# Altium schematic symbol library hphonglib.SchLib: 598 symbols (part 8 of 8)
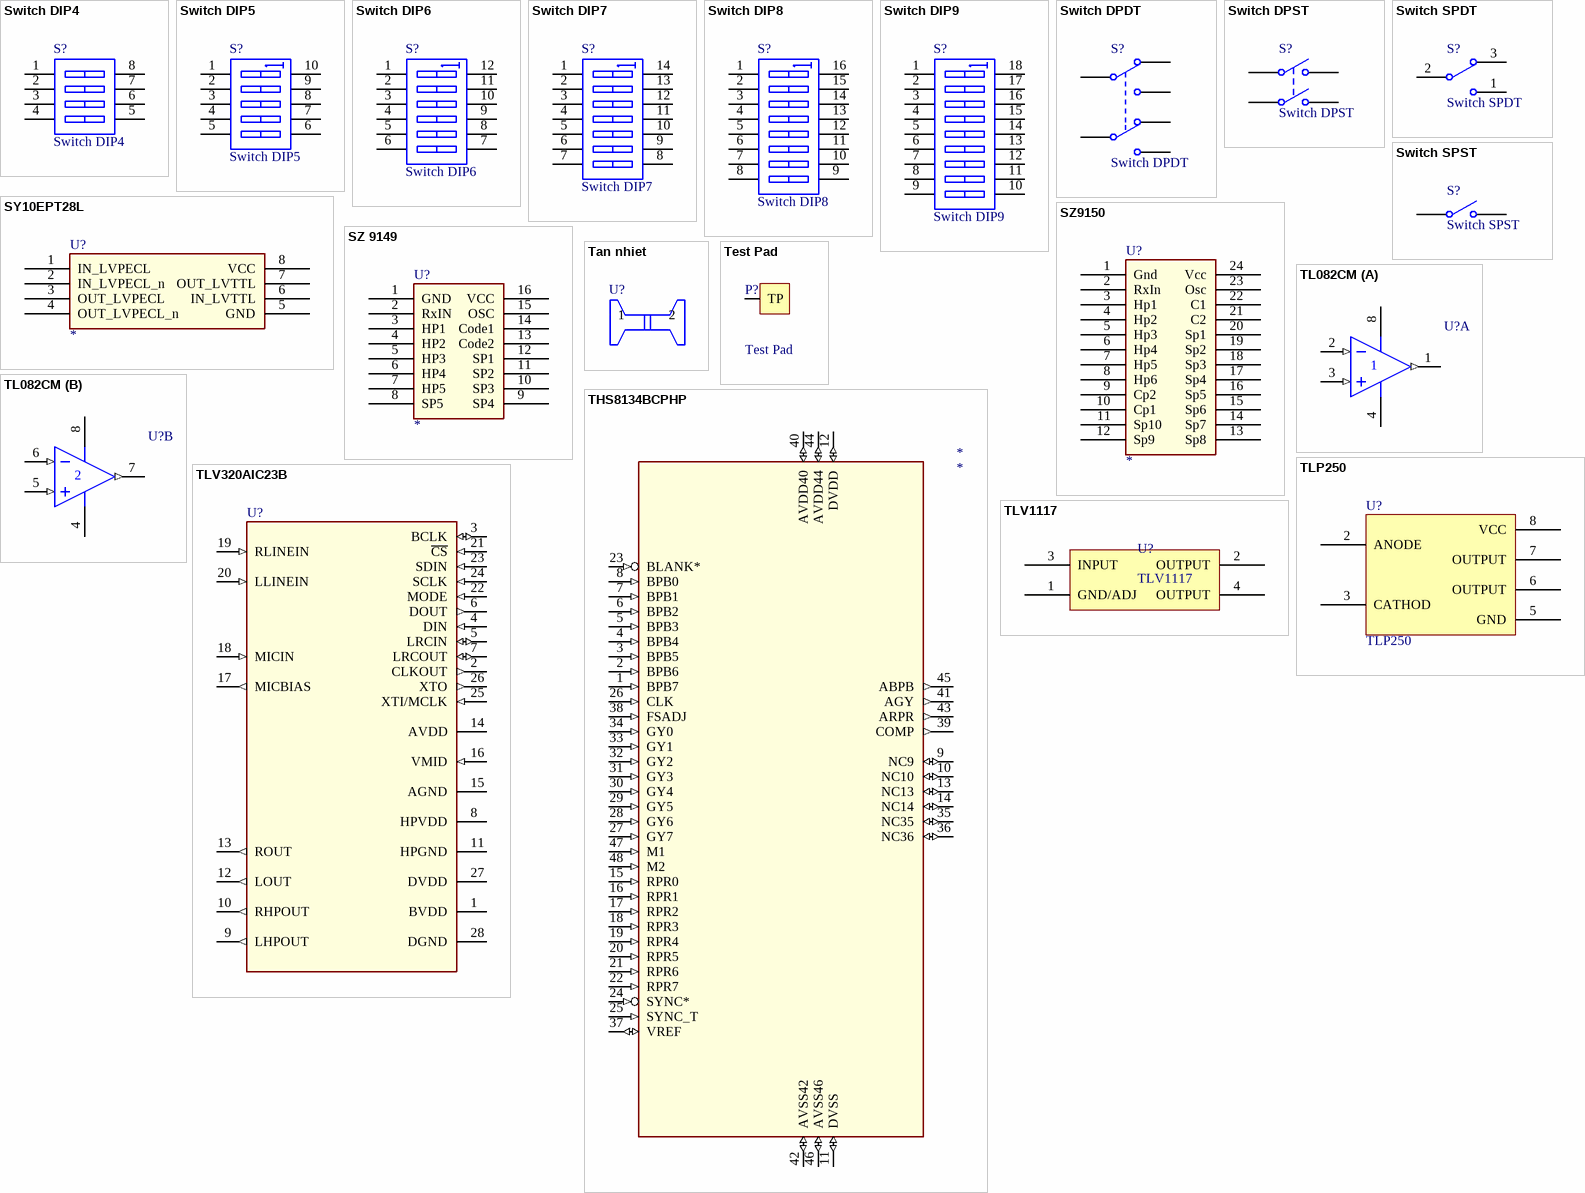
[diagram p38: symbols Switch DIP4 to TLV1117]

## Switch SPDT
designator S?
Single-Pole, Double-Throw Switch; Published: 24-Mar-1999; LatestRevisionDate: 17-Dec-2003; LatestRevisionNote: Schematic revised, PCB Footprint replaced.; DatasheetDocument: 05-Dec-2000; PackageReference: TL36WW15050; Publisher: Altium Limited; ComponentLink1Description: Manufacturer Link; ComponentLink1URL: http://www.apem.com
footprint SPDT (Single-Pole, Double-Throw Switch)
footprint SPDT-Small (Single-Pole, Double-Throw Switch, Small Type)
pins: 1, 2, 3

## Switch SPST
designator S?
Single-Pole, Single-Throw Switch; Published: 24-Mar-1999; LatestRevisionDate: 17-Jul-2002; LatestRevisionNote: Re-released for DXP Platform.; PackageReference: SPST-2; Publisher: Altium Limited
footprint SPST (Single-Pole, Single-Throw Switch; 2 Leads)
footprint SPST-Latch (Single-Pole, Single-Throw Switch; 2 Leads)
pins: 1 COMMON, 2 NO

## SY10EPT28L
designator U?
ComponentLink1Description: Digikey Part Link; ComponentLink2Description: Open Datasheet; ComponentLink2URL: H:\LIBRARY\LIBRARY.Datasheet\
footprint SOIC
pins: 1 IN_LVPECL, 2 IN_LVPECL_n, 3 OUT_LVPECL, 4 OUT_LVPECL_n, 5 GND, 6 IN_LVTTL, 7 OUT_LVTTL, 8 VCC

## SZ9150
designator U?
Vendor: Digikey; Published: 13-April-2009; Publisher: Hoang Nguyen; ComponentLink1Description: Digikey Part Link; ComponentLink2Description: Open Datasheet; ComponentLink2URL: H:\LIBRARY\LIBRARY.Datasheet\
pins: 1 Gnd (power), 2 RxIn, 3 Hp1, 4 Hp2, 5 Hp3, 6 Hp4, 7 Hp5, 8 Hp6, 9 Cp2, 10 Cp1, 11 Sp10, 12 Sp9, 13 Sp8, 14 Sp7, 15 Sp6, 16 Sp5, 17 Sp4, 18 Sp3, 19 Sp2, 20 Sp1, 21 C2, 22 C1, 23 Osc, 24 Vcc (power)

## SZ 9149
designator U?
Vendor: Digikey; Published: 13-April-2009; Publisher: Hoang Nguyen; ComponentLink1Description: Digikey Part Link; ComponentLink2Description: Open Datasheet; ComponentLink2URL: H:\LIBRARY\LIBRARY.Datasheet\
pins: 1 GND (power), 2 RxIN, 3 HP1, 4 HP2, 5 HP3, 6 HP4, 7 HP5, 8 SP5, 9 SP4, 10 SP3, 11 SP2, 12 SP1, 13 Code2, 14 Code1, 15 OSC, 16 VCC (power)

## Tan nhiet
designator U?  (value not drawn)
Vendor: Digikey; Published: 13-April-2009; Publisher: Hoang Nguyen; ComponentLink1Description: Digikey Part Link; ComponentLink2Description: Open Datasheet; ComponentLink2URL: H:\LIBRARY\LIBRARY.Datasheet\
footprint Tan Nhiet
footprint Tan Nhiet_N
pins: 1, 2

## Test Pad
designator P?
Test Pad, 1-Pin; LatestRevisionDate: 17-Jul-2002; LatestRevisionNote: Re-released for DXP Platform.; Publisher: Altium Limited
footprint TP (Test Pad, 1-Pin)
pins: 1 TP

## THS8134BCPHP
designator *
Triple DAC Video; Vendor: Digikey; Published: 13-April-2009; Publisher: Hoang Nguyen; ComponentLink1Description: Digikey Part Link; ComponentLink2Description: Open Datasheet; ComponentLink2URL: H:\LIBRARY\LIBRARY.Datasheet\
pins: 1 BPB7 (in), 2 BPB6 (in), 3 BPB5 (in), 4 BPB4 (in), 5 BPB3 (in), 6 BPB2 (in), 7 BPB1 (in), 8 BPB0 (in), 9 NC9 (io), 10 NC10 (io), 11 DVSS (io), 12 DVDD (io), 13 NC13 (io), 14 NC14 (io), 15 RPR0 (in), 16 RPR1 (in), 17 RPR2 (in), 18 RPR3 (in), 19 RPR4 (in), 20 RPR5 (in), 21 RPR6 (in), 22 RPR7 (in), 23 BLANK* (in), 24 SYNC* (in), 25 SYNC_T (in), 26 CLK (in), 27 GY7 (in), 28 GY6 (in), 29 GY5 (in), 30 GY4 (in), 31 GY3 (in), 32 GY2 (in), 33 GY1 (in), 34 GY0 (in), 35 NC35 (io), 36 NC36 (io), 37 VREF (io), 38 FSADJ (in), 39 COMP (out), 40 AVDD40 (io), 41 AGY (out), 42 AVSS42 (io), 43 ARPR (out), 44 AVDD44 (io), 45 ABPB (out), 46 AVSS46 (io), 47 M1 (in), 48 M2 (in)

## TL082CM
designator U?
Wide-Bandwidth Dual JFET Input Operational Amplifier; Published: 15-Apr-2002; LatestRevisionDate: 13-Apr-2006; LatestRevisionNote: IPC-7351 Footprint Added.; DatasheetVersion: Apr-1998; PackageVersion: Sep-1997; PackageReference: M08A; Publisher: Altium Limited; PackageDescription: 8-Pin Small Outline Integrated Circuit 1.27 mm Pitch; Code_JEDEC: MS-012-AA; Code_IPC: SOIC127P600-8; ComponentLink1Description: Manufacturer Link; ComponentLink1URL: http://www.national.com/; ComponentLink2Description: Datasheet; ComponentLink2URL: http://www.national.com/ds.cgi/TL/TL082.pdf; ComponentLink3Description: URL Link1; ComponentLink3URL: http://www.national.com/pf/TL/TL082.html
footprint DIP-8 (DIP, 8-Pin, Row Spacing 7.62 mm, Pitch 2.54 mm)
pins on every part: 4 V- (power), 8 V+ (power)
part A pins: 1 OUT (out), 2 IN- (in), 3 IN+ (in)
part B pins: 5 IN+ (in), 6 IN- (in), 7 OUT (out)

## TLP250
designator U?
IGBT/Power MOSFET Gate Driver
footprint DIP-8 (DIP, 8-Pin, Row Spacing 7.62 mm, Pitch 2.54 mm)
pins: 2 ANODE, 3 CATHOD, 5 GND, 6 OUTPUT, 7 OUTPUT, 8 VCC

## TLV320AIC23B
designator U?  (value not drawn)
utomotive Catalog Stereo Audio CODEC, 8- to 96 kHz, w/Integrated Headphone Amp; Manufacturer: Texas Instruments; Manufacturer P/N: TLV320AIC23B-Q1; Sampling Rate: 96Khz; Resolution: 24-bit; Analog Supply: 2.7 - 3.6 V; Digital Supply: 1.42 - 3.6 V; ComponentLink1Description: Digikey Part Link; ComponentLink2Description: Open Datasheet; ComponentLink2URL: H:\LIBRARY\LIBRARY.Datasheet\tlv320aic23b-q1.pdf
footprint SSOP-28.AIC23 (SSOP, Plastic; 28 Leads; Body Width 5.2 mm; Pitch 0.65 mm)
pins: 1 BVDD (power) "Buffer supply input. Voltage range is from 2.7 V to 3.6 V.", 2 CLKOUT (out) "Clock output. This is a buffered version of the XTI input and is available in 1X or 1/2X frequencies of XTI. Bit 07 in  the sample rate control register controls frequency selection", 3 BCLK (io) "I2S serial-bit clock", 4 DIN (in) "I2S format serial data input to the sigma-delta stereo DAC", 5 LRCIN (io) "I2S DAC-word clock signal.", 6 DOUT (out) "I2S format serial data output from the sigma-delta stereo ADC", 7 LRCOUT (io) "I2S ADC-word clock signal.", 8 HPVDD (power) "Analog headphone amplifier supply input. Voltage level is 3.3 V nominal.", 9 LHPOUT (out) "Left stereo mixer-channel amplified headphone output", 10 RHPOUT (out) "Right stereo mixer-channel amplified headphone output", 11 HPGND (power) "Analog headphone amplifier supply return", 12 LOUT (out) "Left stereo mixer-channel line output", 13 ROUT (out) "Right stereo mixer-channel line output", 14 AVDD (power) "Analog supply input. Voltage level is 3.3 V nominal.", 15 AGND (power) "Analog supply return", 16 VMID (in) "Midrail voltage decoupling input", 17 MICBIAS (out) "Buffered low-noise-voltage output suitable for electret-microphone-capsule biasing", 18 MICIN (in) "Buffered amplifier input suitable for use with electret-microphone capsules", 19 RLINEIN (in) "Right stereo-line input channel", 20 LLINEIN (in) "Left stereo-line input channe", 21 ~{CS} (in) "Control port input latch/address select. For SPI control mode this input acts as the data latch control. For 2-wire  control mode this input defines the seventh bit in the device address field", 22 MODE (in) "Serial-interface-mode input", 23 SDIN (in) "Control-port serial-data input", 24 SCLK (in) "Control-port serial-data clock", 25 XTI/MCLK (in) "Crystal or external-clock input", 26 XTO (out) "Crystal output", 27 DVDD (power) "Digital supply input. Voltage range is 1.4 V to 3.6 V.", 28 DGND (power) "Digital supply return"

## TLV1117
designator U?
Adjustable And Fixed Low-Dropout Voltage Regulator
footprint SOT223-4M (SOT223, 4-Leads, Body 6.5x3.5mm, Pitch 2.3mm, Lead Span 7mm, IPC Low Density)
footprint SOT223-4M-A (Connector; Header; 3 Position; Solder Pad 35mil)
pins: 1 GND/ADJ, 2 OUTPUT, 3 INPUT, 4 OUTPUT

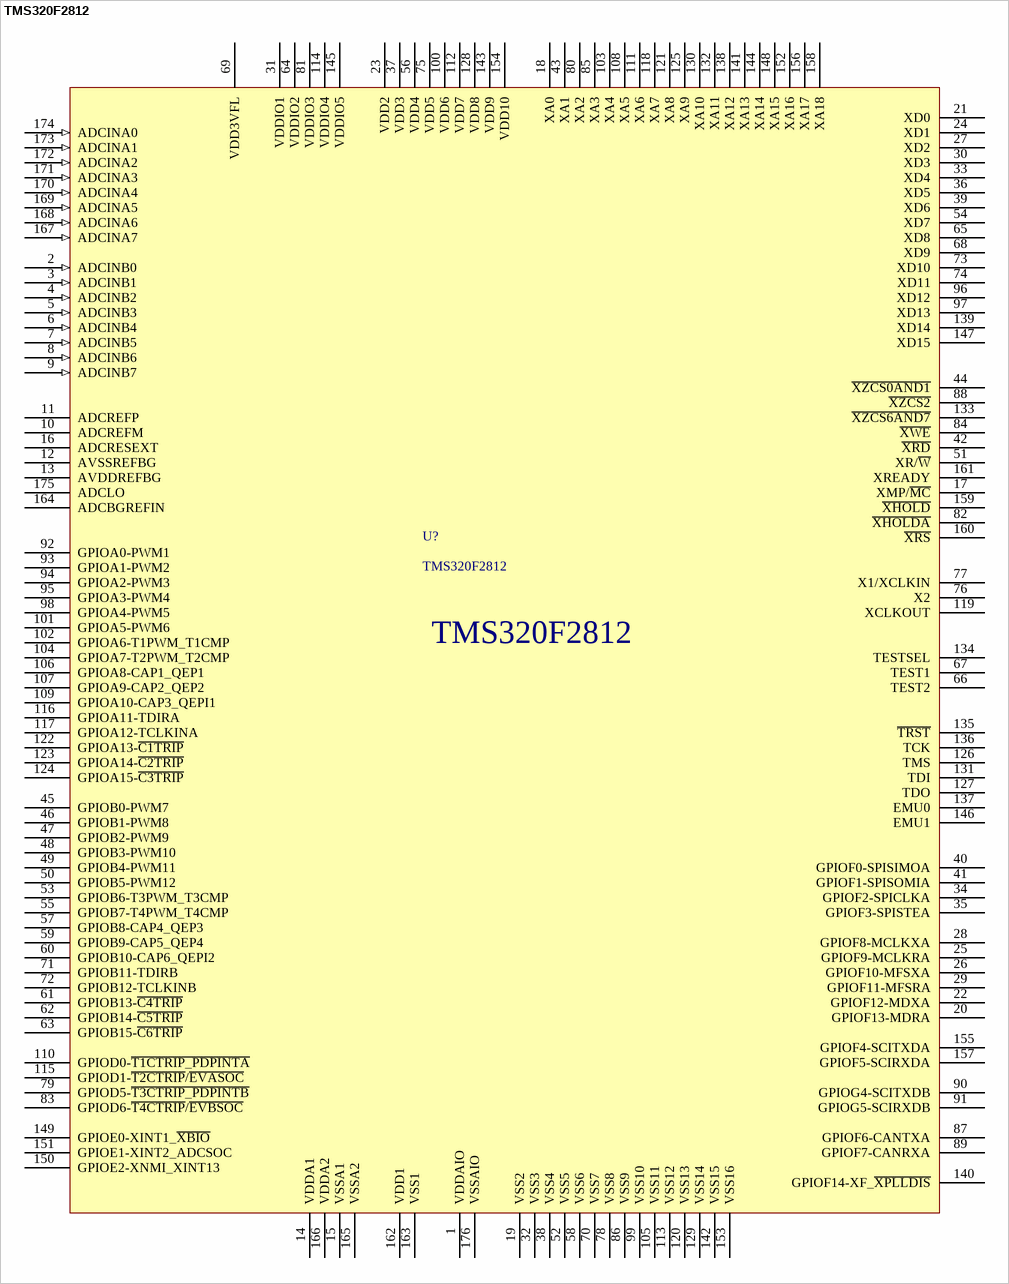
[diagram p27: symbol TMS320F2812]

## TMS320F2812
designator U?
Digital Signal Processors; Manufacture: Texas Instruments
footprint QFP-24x24-0.5-176 (176-Pin Plastic Quad Flat Pack, Body 24mmx24mm, Pitch 0.5 m)
footprint QFP-24x24-0.5-176-A (176-Pin Plastic Quad Flat Pack, Body 24mmx24mm, Pitch 0.5 m; Adaptor)
pins: 1 VDDAIO, 2 ADCINB0 (in), 3 ADCINB1 (in), 4 ADCINB2 (in), 5 ADCINB3 (in), 6 ADCINB4 (in), 7 ADCINB5 (in), 8 ADCINB6 (in), 9 ADCINB7 (in), 10 ADCREFM, 11 ADCREFP, 12 AVSSREFBG, 13 AVDDREFBG, 14 VDDA1, 15 VSSA1, 16 ADCRESEXT, 17 XMP/~{MC}, 18 XA0, 19 VSS2, 20 GPIOF13-MDRA, 21 XD0, 22 GPIOF12-MDXA, 23 VDD2, 24 XD1, 25 GPIOF9-MCLKRA, 26 GPIOF10-MFSXA, 27 XD2, 28 GPIOF8-MCLKXA, 29 GPIOF11-MFSRA, 30 XD3, 31 VDDIO1, 32 VSS3, 33 XD4, 34 GPIOF2-SPICLKA, 35 GPIOF3-SPISTEA, 36 XD5, 37 VDD3, 38 VSS4, 39 XD6, 40 GPIOF0-SPISIMOA, 41 GPIOF1-SPISOMIA, 42 ~{XRD}, 43 XA1, 44 ~{XZCS0AND1}, 45 GPIOB0-PWM7, 46 GPIOB1-PWM8, 47 GPIOB2-PWM9, 48 GPIOB3-PWM10, 49 GPIOB4-PWM11, 50 GPIOB5-PWM12, 51 XR/~{W}, 52 VSS5, 53 GPIOB6-T3PWM_T3CMP, 54 XD7, 55 GPIOB7-T4PWM_T4CMP, 56 VDD4, 57 GPIOB8-CAP4_QEP3, 58 VSS6, 59 GPIOB9-CAP5_QEP4, 60 GPIOB10-CAP6_QEPI2, 61 GPIOB13-~{C4TRIP}, 62 GPIOB14-~{C5TRIP}, 63 GPIOB15-~{C6TRIP}, 64 VDDIO2, 65 XD8, 66 TEST2, 67 TEST1, 68 XD9, 69 VDD3VFL, 70 VSS7, 71 GPIOB11-TDIRB, 72 GPIOB12-TCLKINB, 73 XD10, 74 XD11, 75 VDD5, 76 X2, 77 X1/XCLKIN, 78 VSS8, 79 GPIOD5-~{T3CTRIP_PDPINTB}, 80 XA2, 81 VDDIO3, 82 ~{XHOLDA}, 83 GPIOD6-~{T4CTRIP}/~{EVBSOC}, 84 ~{XWE}, 85 XA3, 86 VSS9, 87 GPIOF6-CANTXA, 88 ~{XZCS2}, 89 GPIOF7-CANRXA, 90 GPIOG4-SCITXDB, 91 GPIOG5-SCIRXDB, 92 GPIOA0-PWM1, 93 GPIOA1-PWM2, 94 GPIOA2-PWM3, 95 GPIOA3-PWM4, 96 XD12, 97 XD13, 98 GPIOA4-PWM5, 99 VSS10, 100 VDD6, 101 GPIOA5-PWM6, 102 GPIOA6-T1PWM_T1CMP, 103 XA4, 104 GPIOA7-T2PWM_T2CMP, 105 VSS11, 106 GPIOA8-CAP1_QEP1, 107 GPIOA9-CAP2_QEP2, 108 XA5, 109 GPIOA10-CAP3_QEPI1, 110 GPIOD0-~{T1CTRIP_PDPINTA}, 111 XA6, 112 VDD7, 113 VSS12, 114 VDDIO4, 115 GPIOD1-~{T2CTRIP}/~{EVASOC}, 116 GPIOA11-TDIRA, 117 GPIOA12-TCLKINA, 118 XA7, 119 XCLKOUT, 120 VSS13, 121 XA8, 122 GPIOA13-~{C1TRIP}, 123 GPIOA14-~{C2TRIP}, 124 GPIOA15-~{C3TRIP}, 125 XA9, 126 TMS, 127 TDO, 128 VDD8, 129 VSS14, 130 XA10, 131 TDI, 132 XA11, 133 ~{XZCS6AND7}, 134 TESTSEL, 135 ~{TRST}, 136 TCK, 137 EMU0, 138 XA12, 139 XD14, 140 GPIOF14-XF_~{XPLLDIS}, 141 XA13, 142 VSS15, 143 VDD9, 144 XA14, 145 VDDIO5, 146 EMU1, 147 XD15, 148 XA15, 149 GPIOE0-XINT1_~{XBIO}, 150 GPIOE2-XNMI_XINT13, 151 GPIOE1-XINT2_ADCSOC, 152 XA16, 153 VSS16, 154 VDD10, 155 GPIOF4-SCITXDA, 156 XA17, 157 GPIOF5-SCIRXDA, 158 XA18, 159 ~{XHOLD}, 160 ~{XRS}, 161 XREADY, 162 VDD1, 163 VSS1, 164 ADCBGREFIN, 165 VSSA2, 166 VDDA2, 167 ADCINA7 (in), 168 ADCINA6 (in), 169 ADCINA5 (in), 170 ADCINA4 (in), 171 ADCINA3 (in), 172 ADCINA2 (in), 173 ADCINA1 (in), 174 ADCINA0 (in), 175 ADCLO, 176 VSSAIO

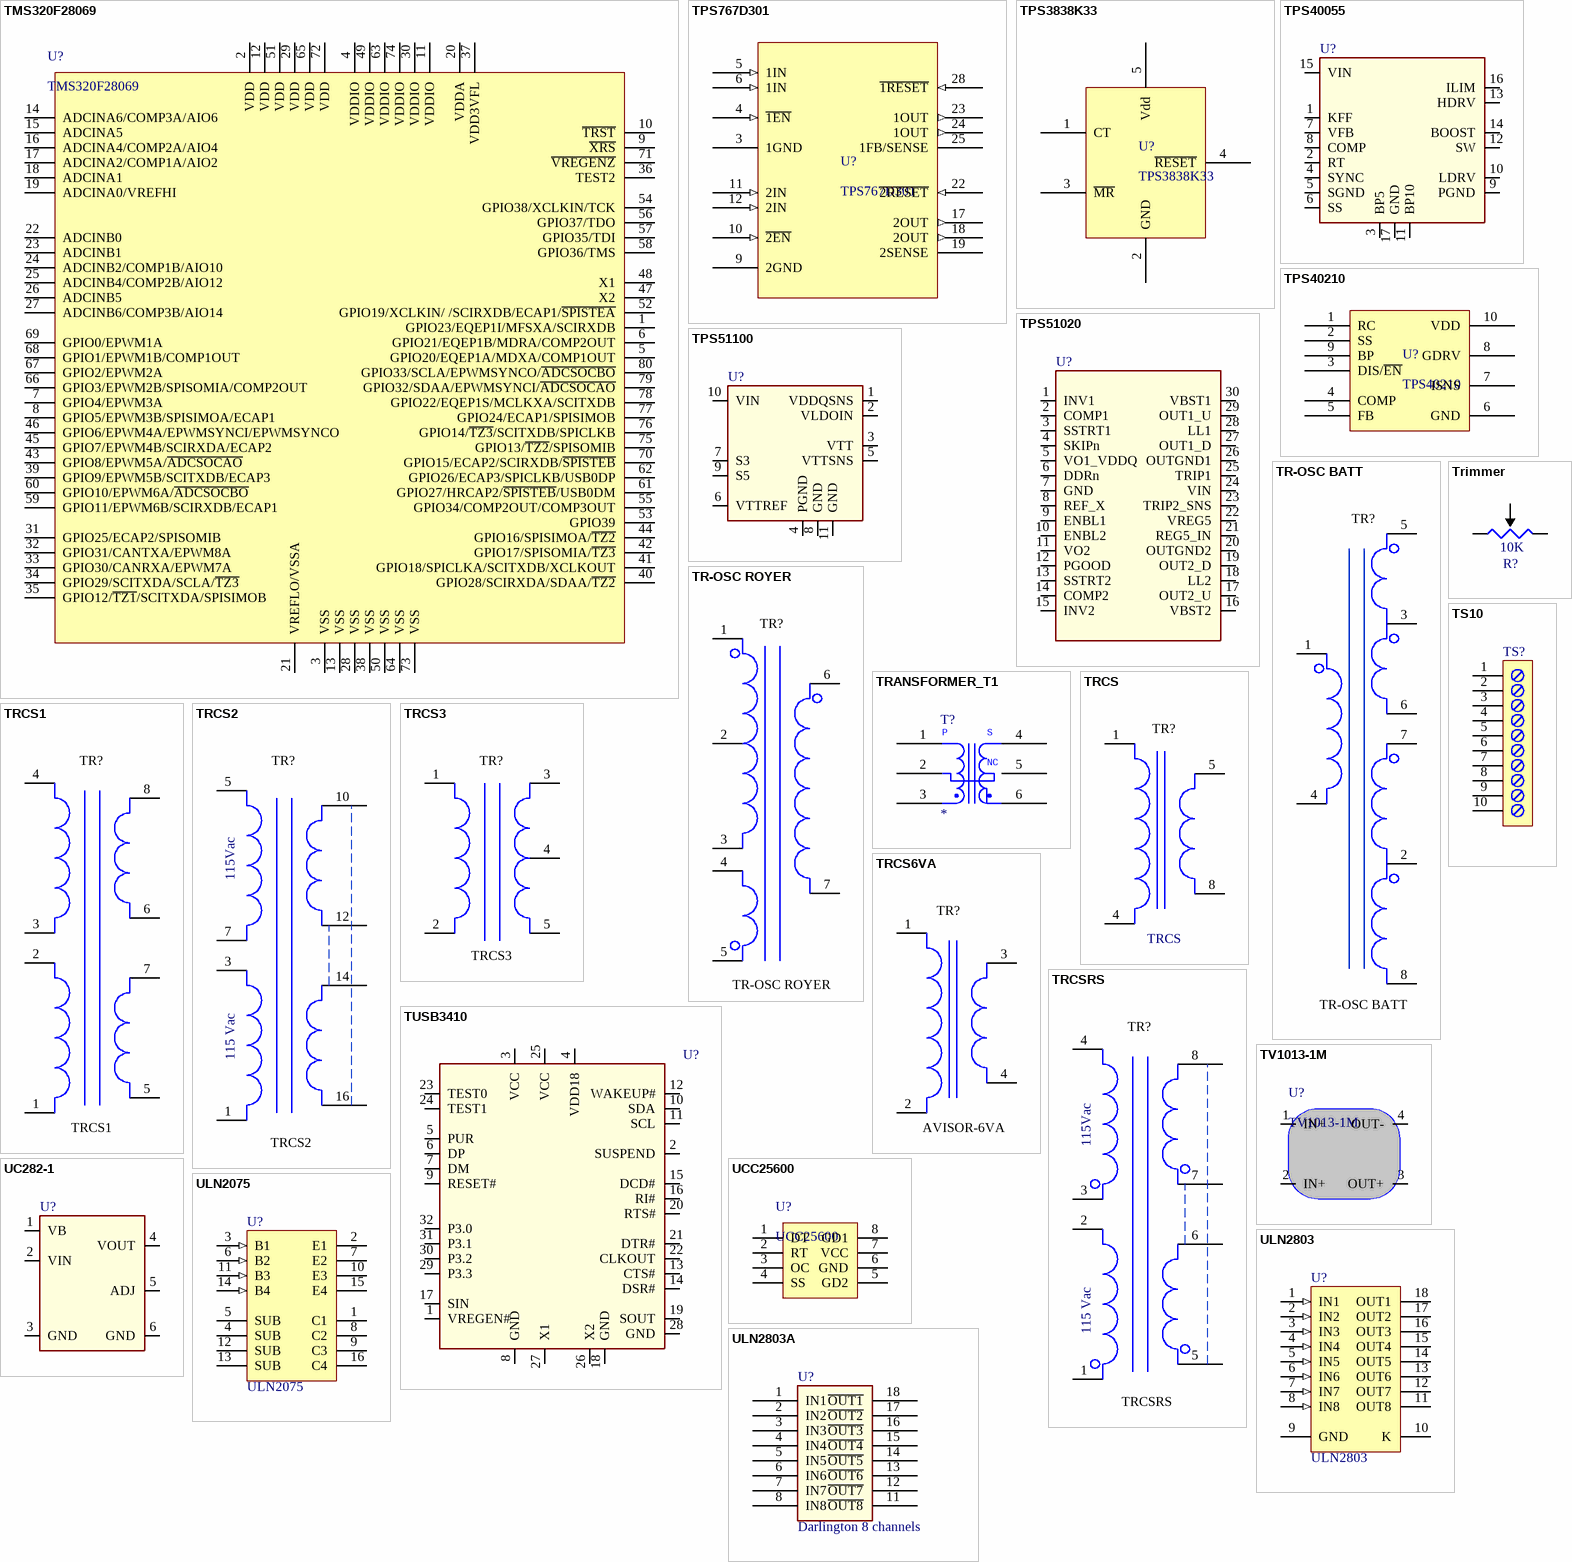
[diagram p28: symbols TMS320F28069 to ULN2803A]

## TMS320F28069
designator U?
Manufacture Company: Texas Instrument
footprint TQFP-80_L (80-Pin Thin Plastic Quad Flat Pack 0.5 mm Pitch, 1.0/0.1 mm Lead Form, IPC High Density)
pins: 1 GPIO23/EQEP1I/MFSXA/SCIRXDB, 2 VDD, 3 VSS, 4 VDDIO, 5 GPIO20/EQEP1A/MDXA/COMP1OUT, 6 GPIO21/EQEP1B/MDRA/COMP2OUT, 7 GPIO4/EPWM3A, 8 GPIO5/EPWM3B/SPISIMOA/ECAP1, 9 ~{XRS}, 10 ~{TRST}, 11 VDDIO, 12 VDD, 13 VSS, 14 ADCINA6/COMP3A/AIO6, 15 ADCINA5, 16 ADCINA4/COMP2A/AIO4, 17 ADCINA2/COMP1A/AIO2, 18 ADCINA1, 19 ADCINA0/VREFHI, 20 VDDA, 21 VREFLO/VSSA, 22 ADCINB0, 23 ADCINB1, 24 ADCINB2/COMP1B/AIO10, 25 ADCINB4/COMP2B/AIO12, 26 ADCINB5, 27 ADCINB6/COMP3B/AIO14, 28 VSS, 29 VDD, 30 VDDIO, 31 GPIO25/ECAP2/SPISOMIB, 32 GPIO31/CANTXA/EPWM8A, 33 GPIO30/CANRXA/EPWM7A, 34 GPIO29/SCITXDA/SCLA/~{TZ3}, 35 GPIO12/~{TZ1}/SCITXDA/SPISIMOB, 36 TEST2, 37 VDD3VFL, 38 VSS, 39 GPIO9/EPWM5B/SCITXDB/ECAP3, 40 GPIO28/SCIRXDA/SDAA/~{TZ2}, 41 GPIO18/SPICLKA/SCITXDB/XCLKOUT, 42 GPIO17/SPISOMIA/~{TZ3}, 43 GPIO8/EPWM5A/~{ADCSOCAO}, 44 GPIO16/SPISIMOA/~{TZ2}, 45 GPIO7/EPWM4B/SCIRXDA/ECAP2, 46 GPIO6/EPWM4A/EPWMSYNCI/EPWMSYNCO, 47 X2, 48 X1, 49 VDDIO, 50 VSS, 51 VDD, 52 GPIO19/XCLKIN/ /SCIRXDB/ECAP1/~{SPISTEA}, 53 GPIO39, 54 GPIO38/XCLKIN/TCK, 55 GPIO34/COMP2OUT/COMP3OUT, 56 GPIO37/TDO, 57 GPIO35/TDI, 58 GPIO36/TMS, 59 GPIO11/EPWM6B/SCIRXDB/ECAP1, 60 GPIO10/EPWM6A/~{ADCSOCBO}, 61 GPIO27/HRCAP2/~{SPISTEB}/USB0DM, 62 GPIO26/ECAP3/SPICLKB/USB0DP, 63 VDDIO, 64 VSS, 65 VDD, 66 GPIO3/EPWM2B/SPISOMIA/COMP2OUT, 67 GPIO2/EPWM2A, 68 GPIO1/EPWM1B/COMP1OUT, 69 GPIO0/EPWM1A, 70 GPIO15/ECAP2/SCIRXDB/~{SPISTEB}, 71 ~{VREGENZ}, 72 VDD, 73 VSS, 74 VDDIO, 75 GPIO13/~{TZ2}/SPISOMIB, 76 GPIO14/~{TZ3}/SCITXDB/SPICLKB, 77 GPIO24/ECAP1/SPISIMOB, 78 GPIO22/EQEP1S/MCLKXA/SCITXDB, 79 GPIO32/SDAA/EPWMSYNCI/~{ADCSOCAO}, 80 GPIO33/SCLA/EPWMSYNCO/~{ADCSOCBO}

## TPS767D301
designator U?
Dual-Output Low-Dropout Voltage Regulator, ADJ/3.3V; Manufacture: Texas Instruments
footprint HSOP-9.8x4.4-0.65-28 (Small Outline Pakage; 28 Leads; Body 4.4 mm; Pitch 0.65 mm; Heatsink)
pins: 3 1GND, 4 ~{1EN} (in), 5 1IN (in), 6 1IN (in), 9 2GND, 10 ~{2EN} (in), 11 2IN (in), 12 2IN (in), 17 2OUT (out), 18 2OUT (out), 19 2SENSE, 22 ~{2RESET} (in), 23 1OUT (out), 24 1OUT (out), 25 1FB/SENSE, 28 ~{1RESET} (in)

## TPS3838K33
designator U?
NanoPower Supervisory Circuits 3.3V
footprint SOT23-2.9x1.6-0.95-5AL (SOT23, 5-Leads, Body 2.9x1.6mm, Pitch 0.95mm, Lead Span 2.8mm, IPC High Density)
pins: 1 CT, 2 GND, 3 ~{MR}, 4 ~{RESET}, 5 Vdd

## TPS40055
designator U?  (value not drawn)
Wide Input (8V-40V) up to 1MHz Frequency Synchronous Buck Controller, source/sink; Manufacturer: Texas Instruments; Iout(Max): 1A; Switching Frequency(Max): 1000Khz; Vout: 0.7-35V; Vin: 8-40V; ComponentLink1Description: Digikey Part Link; ComponentLink2Description: Open Datasheet; ComponentLink2URL: H:\LIBRARY\LIBRARY.Datasheet\
pins: 1 KFF, 2 RT, 3 BP5, 4 SYNC, 5 SGND, 6 SS, 7 VFB, 8 COMP, 9 PGND, 10 LDRV, 11 BP10, 12 SW, 13 HDRV, 14 BOOST, 15 VIN, 16 ILIM, 17 GND

## TPS40210
designator U?
4.5-V to 52-V Input Current Mode Boost Controller
footprint SON-3x3-0.5-10 (SON, 10-Leads, Body 3x3 mm, Pitch 0.5mm, IPC Low Density)
pins: 1 RC, 2 SS, 3 DIS/~{EN}, 4 COMP, 5 FB, 6 GND, 7 ISNS, 8 GDRV, 9 BP, 10 VDD

## TPS51020
designator U?  (value not drawn)
Dual, DDR selectable, Synchronous buck controller; Manufacturer: Texas Instruments; Iout(Max): 20A; Switching Frequency: 450Khz; Vout: 0.9-24V; Vin: 4.5-28V; ComponentLink1Description: Digikey Part Link; ComponentLink2Description: Open Datasheet; ComponentLink2URL: H:\LIBRARY\LIBRARY.Datasheet\
pins: 1 INV1, 2 COMP1, 3 SSTRT1, 4 SKIPn, 5 VO1_VDDQ, 6 DDRn, 7 GND, 8 REF_X, 9 ENBL1, 10 ENBL2, 11 VO2, 12 PGOOD, 13 SSTRT2, 14 COMP2, 15 INV2, 16 VBST2, 17 OUT2_U, 18 LL2, 19 OUT2_D, 20 OUTGND2, 21 REG5_IN, 22 VREG5, 23 TRIP2_SNS, 24 VIN, 25 TRIP1, 26 OUTGND1, 27 OUT1_D, 28 LL1, 29 OUT1_U, 30 VBST1

## TPS51100
designator U?  (value not drawn)
3A Source/Sink DDR terminator Regulator; Manufacturer: Texas Instruments; Vin: 4.75-5.25V; ComponentLink1Description: Digikey Part Link; ComponentLink2Description: Open Datasheet; ComponentLink2URL: H:\LIBRARY\LIBRARY.Datasheet\; Iout(Max): 3A
footprint 10MSOP-PowerPAD (Footprint not found)
pins: 1 VDDQSNS, 2 VLDOIN, 3 VTT, 4 PGND, 5 VTTSNS, 6 VTTREF, 7 S3, 8 GND (power), 9 S5, 10 VIN, 11 GND (power)

## TR-OSC BATT
designator TR?
Tr oscillator for battery power - E30; Vendor: Digikey; Value: *; Published: 13-April-2009; Publisher: Hoang Nguyen; ComponentLink1Description: Digikey Part Link; ComponentLink2Description: Open Datasheet; ComponentLink2URL: H:\LIBRARY\LIBRARY.Datasheet\
footprint TR-OSC BATT (Tr oscillator for battery power - E30)
pins: 1, 2, 3, 4, 5, 6, 7, 8

## TR-OSC ROYER
designator TR?
Royer oscillator - E30; Vendor: Digikey; Value: *; Published: 13-April-2009; Publisher: Hoang Nguyen; ComponentLink1Description: Digikey Part Link; ComponentLink2Description: Open Datasheet; ComponentLink2URL: H:\LIBRARY\LIBRARY.Datasheet\
footprint TR-OSC ROYER (Royer oscillator - E30)
pins: 1, 2, 3, 4, 5, 6, 7

## TRANSFORMER_T1
designator T?
ComponentLink1Description: Digikey Part Link; ComponentLink2Description: Open Datasheet; ComponentLink2URL: H:\LIBRARY\LIBRARY.Datasheet\
pins: 1 IN1, 2 OUT-CT, 3 IN2, 4 OUT1, 5 NC, 6 OUT2
text: P; S

## TRCS
designator TR?  (value not drawn)
Power 3VA - Body 40x32 mm; Vendor: Digikey; Value: *; Published: 13-April-2009; Publisher: Hoang Nguyen; ComponentLink1Description: Digikey Part Link; ComponentLink2Description: Open Datasheet; ComponentLink2URL: H:\LIBRARY\LIBRARY.Datasheet\
footprint TRCS (Power 3VA - Body 40x32 mm)
pins: 1, 4, 5, 8

## TRCS1
designator TR?  (value not drawn)
Power 3.5VA - Body 44x38 mm - GBC TYPE; Vendor: Digikey; Value: *; Published: 13-April-2009; Publisher: Hoang Nguyen; ComponentLink1Description: Digikey Part Link; ComponentLink2Description: Open Datasheet; ComponentLink2URL: H:\LIBRARY\LIBRARY.Datasheet\
footprint TRCS1 (Power 3.5VA - Body 44x38 mm - GBC TYPE)
pins: 1, 2, 3, 4, 5, 6, 7, 8

## TRCS2
designator TR?  (value not drawn)
Power 5VA - Body 54x44 mm; Vendor: Digikey; Value: *; Published: 13-April-2009; Publisher: Hoang Nguyen; ComponentLink1Description: Digikey Part Link; ComponentLink2Description: Open Datasheet; ComponentLink2URL: H:\LIBRARY\LIBRARY.Datasheet\
footprint TRCS2 (Power 5VA - Body 54x44 mm)
pins: 1, 3, 5, 7, 10, 12, 14, 16
text: 115Vac; 115 Vac

## TRCS3
designator TR?  (value not drawn)
Power 3VA - Body 40x35 mm; Vendor: Digikey; Value: *; Published: 13-April-2009; Publisher: Hoang Nguyen; ComponentLink1Description: Digikey Part Link; ComponentLink2Description: Open Datasheet; ComponentLink2URL: H:\LIBRARY\LIBRARY.Datasheet\
footprint TRCS3 (Power 3VA - Body 40x35 mm)
pins: 1, 2, 3, 4, 5

## TRCS6VA
designator TR?  (value not drawn)
Power 6VA - Body 48x41 mm - AVISOR; Vendor: Digikey; Value: *; Published: 13-April-2009; Publisher: Hoang Nguyen; ComponentLink1Description: Digikey Part Link; ComponentLink2Description: Open Datasheet; ComponentLink2URL: H:\LIBRARY\LIBRARY.Datasheet\
footprint TRCS6VA
pins: 1, 2, 3, 4
text: AVISOR-6VA

## TRCSRS
designator TR?  (value not drawn)
Power 6VA - Body 68x57 mm RS type; Vendor: Digikey; Value: *; Published: 13-April-2009; Publisher: Hoang Nguyen; ComponentLink1Description: Digikey Part Link; ComponentLink2Description: Open Datasheet; ComponentLink2URL: H:\LIBRARY\LIBRARY.Datasheet\
footprint TRCSRS (Power 6VA - Body 68x57 mm RS type)
pins: 1, 2, 3, 4, 5, 6, 7, 8
text: 115Vac; 115 Vac

## Trimmer
designator R?  value 10K  (hidden comment: *)
Trimmer; Vendor: Digikey; Published: 8-Jun-2000; LatestRevisionDate: 04-Mar-2005; LatestRevisionNote: PCB Footprint replaced.; PackageReference: J1-0603; Publisher: Altium Limited; ComponentLink1Description: Digikey Part Link; ComponentLink2Description: Open Datasheet; ComponentLink2URL: H:\LIBRARY\LIBRARY.Datasheet\
signal-integrity model TRIM
footprint RT10
footprint RT11
footprint RT24
footprint TRIM Rect
footprint SLIDER
footprint TM1
footprint TM2
footprint TM3
footprint TM4
footprint TRIM SMD 5x5mm
footprint TRIM-3314JR
footprint Trimmer Trim Pot (Trimmer Trim Pot Variable Resistor 3296)
footprint Trimmer (Trimmer Variable Resistor)
footprint Trim circle
footprint RT24X
footprint VR-4
footprint TrimmerN (Trimmer Variable Resistor)
footprint POT - 24mm
pins: 1, 2, 3

## TS10
designator TS?
Screw Terminal Strip, 10 Way, 2.54 mm Pitch; Vendor: Digikey; Published: 5-Jan-2004; DatasheetDocument: 15-Dec-03; Publisher: Altium Limited; ComponentLink1Description: Digikey Part Link; ComponentLink2Description: Open Datasheet; ComponentLink2URL: H:\LIBRARY\LIBRARY.Datasheet\
footprint TS2.54x10 (Screw Terminal Strip, 10 Way, 2.54 mm Pitch)
pcadlib TS2.54x10 (Screw Terminal Strip, 10 Way, 2.54 mm Pitch)
pins: 1 "Screw Terminal", 2 "Screw Terminal", 3 "Screw Terminal", 4 "Screw Terminal", 5 "Screw Terminal", 6 "Screw Terminal", 7 "Screw Terminal", 8 "Screw Terminal", 9 "Screw Terminal", 10 "Screw Terminal"

## TUSB3410
designator U?  (value not drawn)
RS232/IrDA Serial-to-USB Converter; Manufacturer: Texas Instruments; Vendor: Digikey; USB Speed: Full; Volt: 3.3 V; Published: 13-April-2009; Publisher: Hoang Nguyen; ComponentLink1Description: Digikey Part Link; ComponentLink2Description: Open Datasheet; ComponentLink2URL: H:\LIBRARY\LIBRARY.Datasheet\
pins: 1 VREGEN#, 2 SUSPEND, 3 VCC, 4 VDD18, 5 PUR, 6 DP, 7 DM, 8 GND, 9 RESET#, 10 SDA, 11 SCL, 12 WAKEUP#, 13 CTS#, 14 DSR#, 15 DCD#, 16 RI#, 17 SIN, 18 GND, 19 SOUT, 20 RTS#, 21 DTR#, 22 CLKOUT, 23 TEST0, 24 TEST1, 25 VCC, 26 X2, 27 X1, 28 GND, 29 P3.3, 30 P3.2, 31 P3.1, 32 P3.0

## TV1013-1M
designator U?
footprint TV1013-1M
pins: 1 IN+, 2 IN+, 3 OUT+, 4 OUT-

## UC282-1
designator U?  (value not drawn)
Single Output LDO, 3.0A, Fixed(1.5V), Fast Transient Response, Low Quiescent Current; Iout(Max): 3A; Volt: 1.85-7.5; ComponentLink1Description: Digikey Part Link; ComponentLink2Description: Open Datasheet; ComponentLink2URL: H:\LIBRARY\LIBRARY.Datasheet\; Vout: 1.5V
footprint 5DDPAK/TO-263 (Footprint not found)
footprint 5TO-220 (Footprint not found)
pins: 1 VB, 2 VIN, 3 GND (power), 4 VOUT, 5 ADJ, 6 GND (power)

## UCC25600
designator U?
footprint UCC25600 (Half bridge resonant)
pins: 1 DT, 2 RT, 3 OC, 4 SS, 5 GD2, 6 GND, 7 VCC, 8 GD1

## ULN2075
designator U?
80 V -1.5 A Quad Darlington Switch; Published: 8-Jun-2000; LatestRevisionDate: 06-Jun-2005; LatestRevisionNote: Stylized 3D Model Added.; DatasheetVersion: Apr-1993; PackageVersion: Apr-1996; PackageReference: DIP16; Publisher: Altium Limited; PackageDescription: DIP; 16 Leads; Row Spacing 7.62 mm; Pitch 2.54 mm; ComponentLink1Description: Manufacturer Link; ComponentLink1URL: http://www.st.com/; ComponentLink2Description: Datasheet; ComponentLink2URL: http://www.st.com/stonline/products/literature/ds/1535/uln2065b.pdf
footprint DIP-16 (DIP, 16-Pin, Row Spacing 7.62 mm, Pitch 2.54 mm)
pins: 1 C1, 2 E1, 3 B1 (in), 4 SUB (power), 5 SUB (power), 6 B2 (in), 7 E2, 8 C2, 9 C3, 10 E3, 11 B3 (in), 12 SUB (power), 13 SUB (power), 14 B4 (in), 15 E4, 16 C4

## ULN2803
designator U?
Octal Peripheral Driver Array; Published: 17-Jul-2002; LatestRevisionDate: 06-Jun-2005; LatestRevisionNote: Stylized 3D Model Added.; DatasheetVersion: 1988; PackageReference: 707-02; Publisher: Altium Limited; PackageDescription: DIP; 18 Leads; Row Spacing 7.62 mm; Pitch 2.54 mm
footprint DIP-18 (DIP, 18-Pin, Row Spacing 7.62 mm, Pitch 2.54 mm)
pins: 1 IN1 (in), 2 IN2 (in), 3 IN3 (in), 4 IN4 (in), 5 IN5 (in), 6 IN6 (in), 7 IN7 (in), 8 IN8 (in), 9 GND (power), 10 K, 11 OUT8 (oc), 12 OUT7 (oc), 13 OUT6 (oc), 14 OUT5 (oc), 15 OUT4 (oc), 16 OUT3 (oc), 17 OUT2 (oc), 18 OUT1 (oc)

## ULN2803A
designator U?, comment Darlington 8 channels
Vendor: Digikey; Published: 13-April-2009; Publisher: Hoang Nguyen; ComponentLink1Description: Digikey Part Link; ComponentLink2Description: Open Datasheet; ComponentLink2URL: H:\LIBRARY\LIBRARY.Datasheet\
footprint DIP18
pins: 1 IN1, 2 IN2, 3 IN3, 4 IN4, 5 IN5, 6 IN6, 7 IN7, 8 IN8, 9 GND (power) hidden to GND, 10 VCC (power) hidden to VCC, 11 ~{OUT8}, 12 ~{OUT7}, 13 ~{OUT6}, 14 ~{OUT5}, 15 ~{OUT4}, 16 ~{OUT3}, 17 ~{OUT2}, 18 ~{OUT1}

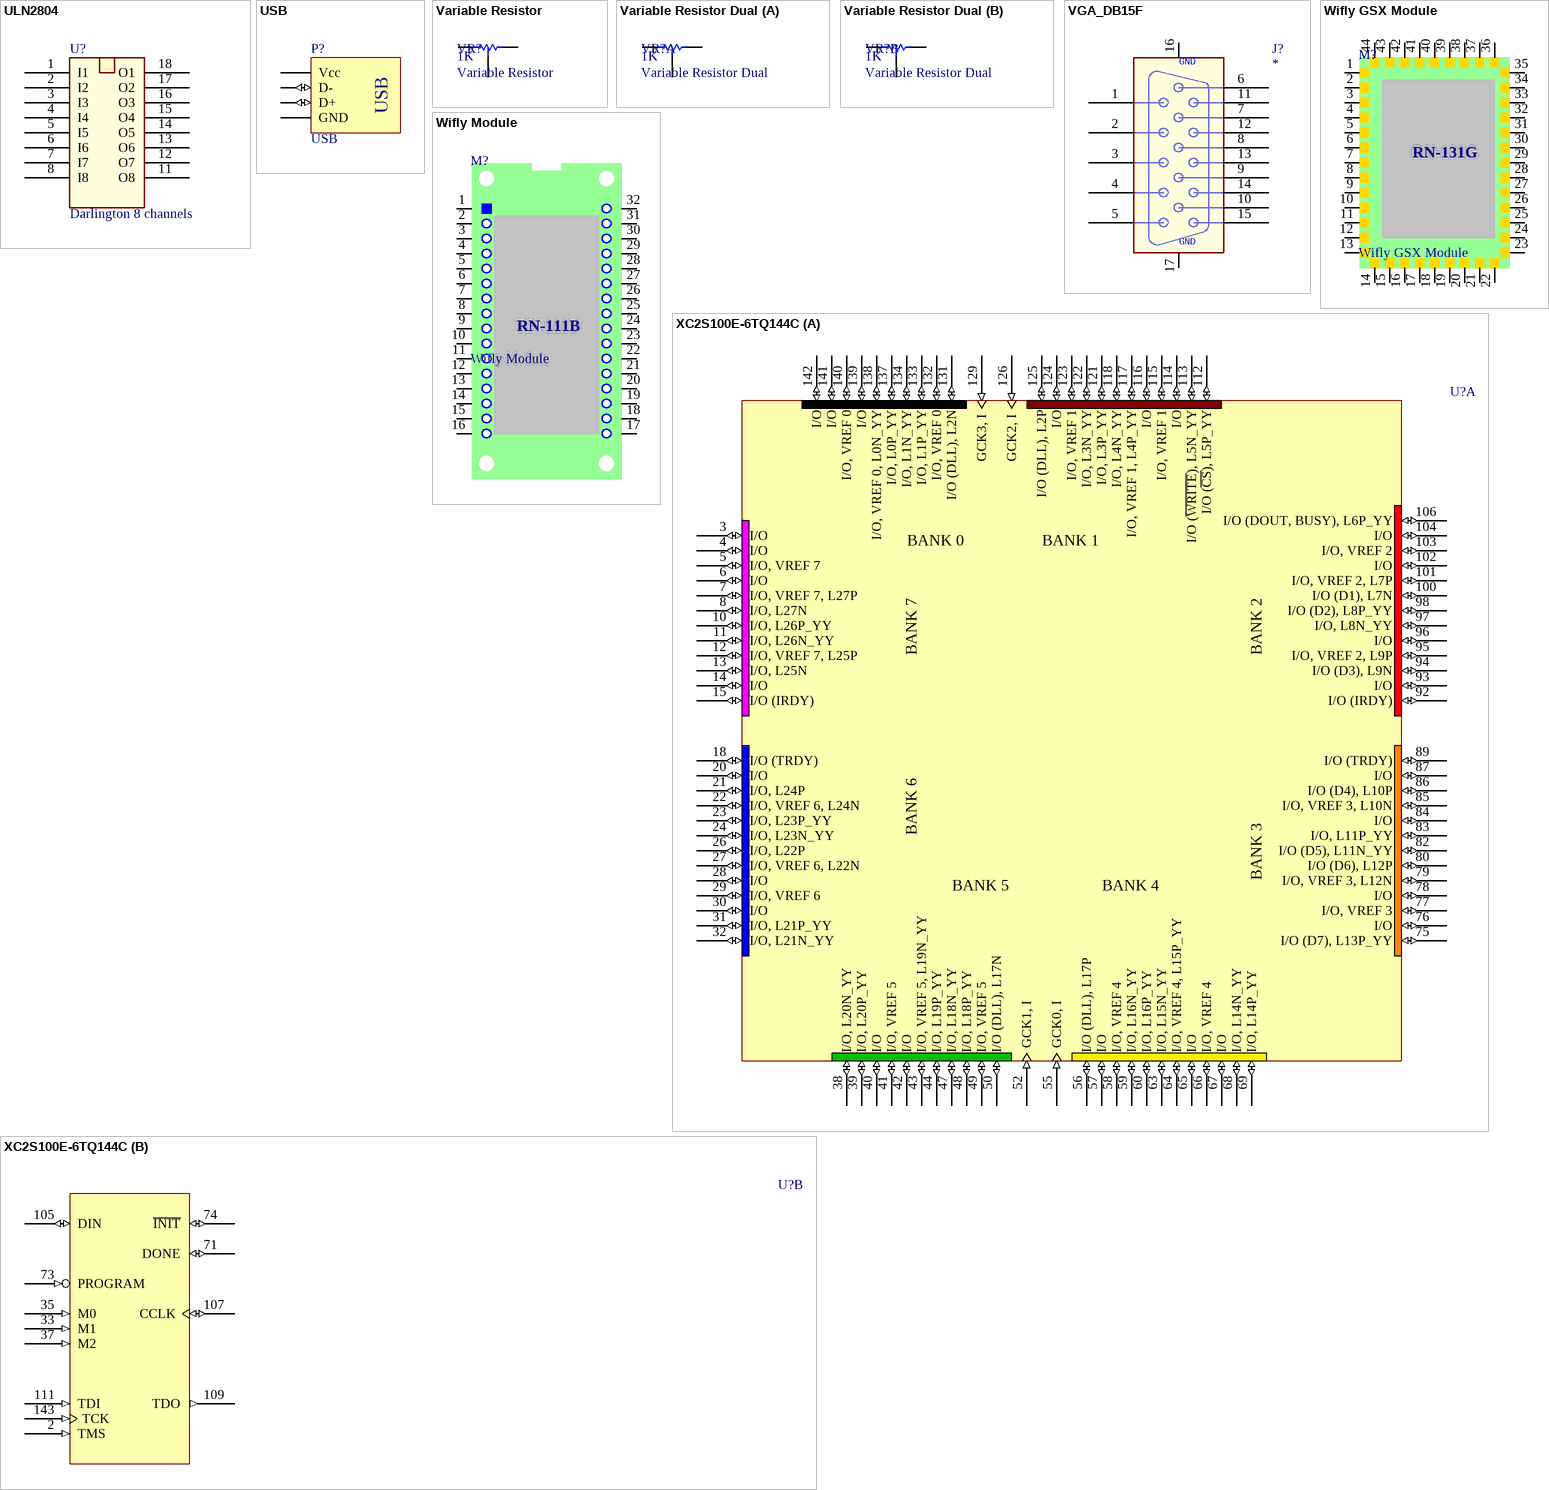
[diagram p29: symbols ULN2804 to XC2S100E-6TQ144C]

## ULN2804
designator U?, comment Darlington 8 channels
Vendor: Digikey; Published: 13-April-2009; Publisher: Hoang Nguyen; ComponentLink1Description: Digikey Part Link; ComponentLink2Description: Open Datasheet; ComponentLink2URL: H:\LIBRARY\LIBRARY.Datasheet\
pins: 1 I1, 2 I2, 3 I3, 4 I4, 5 I5, 6 I6, 7 I7, 8 I8, 9 GND (power) hidden to GND, 10 VCC (power) hidden to VCC, 11 O8, 12 O7, 13 O6, 14 O5, 15 O4, 16 O3, 17 O2, 18 O1

## USB
designator P?
USB Port; LatestRevisionDate: 17-Jul-2002; LatestRevisionNote: Re-released for DXP Platform.; Publisher: Altium Limited
footprint USB TYPE A (Connector; USB; Type A; Solder Pad 35mil)
footprint USB TYPE B (Connector; USB; Type B; Solder Pad 35mil)
footprint USB-SMD (Connector; USB2.0, Type B, SM; 5 Position; Right Angle)
pins: 1 Vcc, 2 D- (io), 3 D+ (io), 4 GND, 5 ID hidden, SHIELD hidden

## Variable Resistor
designator VR?  value 1K
Published: 8-Jun-2000; LatestRevisionDate: 17-Jul-2002; LatestRevisionNote: Re-released for DXP Platform.; PackageReference: AXIAL-0.3; Publisher: Altium Limited
footprint VOLUME (Potentiometer; Volume; 3 Leads; Circle; Solder pad 35mil)
footprint VRes-C (Potentiometer; 3 Leads; Circle; Solder pad 35mil)
footprint VRes-S (Potentiometer; 3 Leads; Square; Solder pad 35mil)
footprint VRes-R (Potentiometer; 3 Leads; Rectangle; Solder pad 35mil)
footprint VRes-V (Potentiometer; 3 Leads; Vertical; Solder pad 35mil)
pins: 1, 2, 3

## Variable Resistor Dual
designator VR?  value 1K
2-channel Variable Resistor; Published: 8-Jun-2000; LatestRevisionDate: 17-Jul-2002; LatestRevisionNote: Re-released for DXP Platform.; PackageReference: AXIAL-0.3; Publisher: Altium Limited
footprint VOLUME Dual (Potentiometer; Volume; 2-channel; 6 Leads; Circle; Solder pad 35mil)
part A pins: 1, 2, 3
part B pins: 4, 5, 6

## VGA_DB15F
designator J?
ComponentLink1Description: Digikey Part Link; ComponentLink2Description: Open Datasheet; ComponentLink2URL: H:\LIBRARY\LIBRARY.Datasheet\
pins: 1 V1, 2 V2, 3 V3, 4 V4, 5 V5, 6 V6, 7 V7, 8 V8, 9 V9, 10 V10, 11 V11, 12 V12, 13 V13, 14 V14, 15 V15, 16 GND (power), 17 GND (power)

## Wifly GSX Module
designator M?
Value: RN-131G; Vendor: Digikey; Publisher: Hoang Nguyen; Published: 13-April-2009; ComponentLink1Description: Digikey Part Link; ComponentLink2Description: Open Datasheet; Manufacturer: www.rovingnetworks.com; ComponentLink2URL: H:\LIBRARY\LIBRARY.Datasheet\
footprint Wifly GSX Module
pins: 1, 2, 3, 4, 5, 6, 7, 8, 9, 10, 11, 12, 13, 14, 15, 16, 17, 18, 19, 20, 21, 22, 23, 24, 25, 26, 27, 28, 29, 30, 31, 32, 33, 34, 35, 36, 37, 38, 39, 40, 41, 42, 43, 44

## Wifly Module
designator M?
Wifi Module; Value: RN-111B; Vendor: Digikey; Publisher: Hoang Nguyen; Published: 13-April-2009; ComponentLink1Description: Digikey Part Link; ComponentLink2Description: Open Datasheet; Manufacturer: www.rovingnetworks.com; ComponentLink2URL: H:\LIBRARY\LIBRARY.Datasheet\
footprint Wifly Module (Wifi Module : Serial to Wifi Bridge)
pins: 1, 2, 3, 4, 5, 6, 7, 8, 9, 10, 11, 12, 13, 14, 15, 16, 17, 18, 19, 20, 21, 22, 23, 24, 25, 26, 27, 28, 29, 30, 31, 32

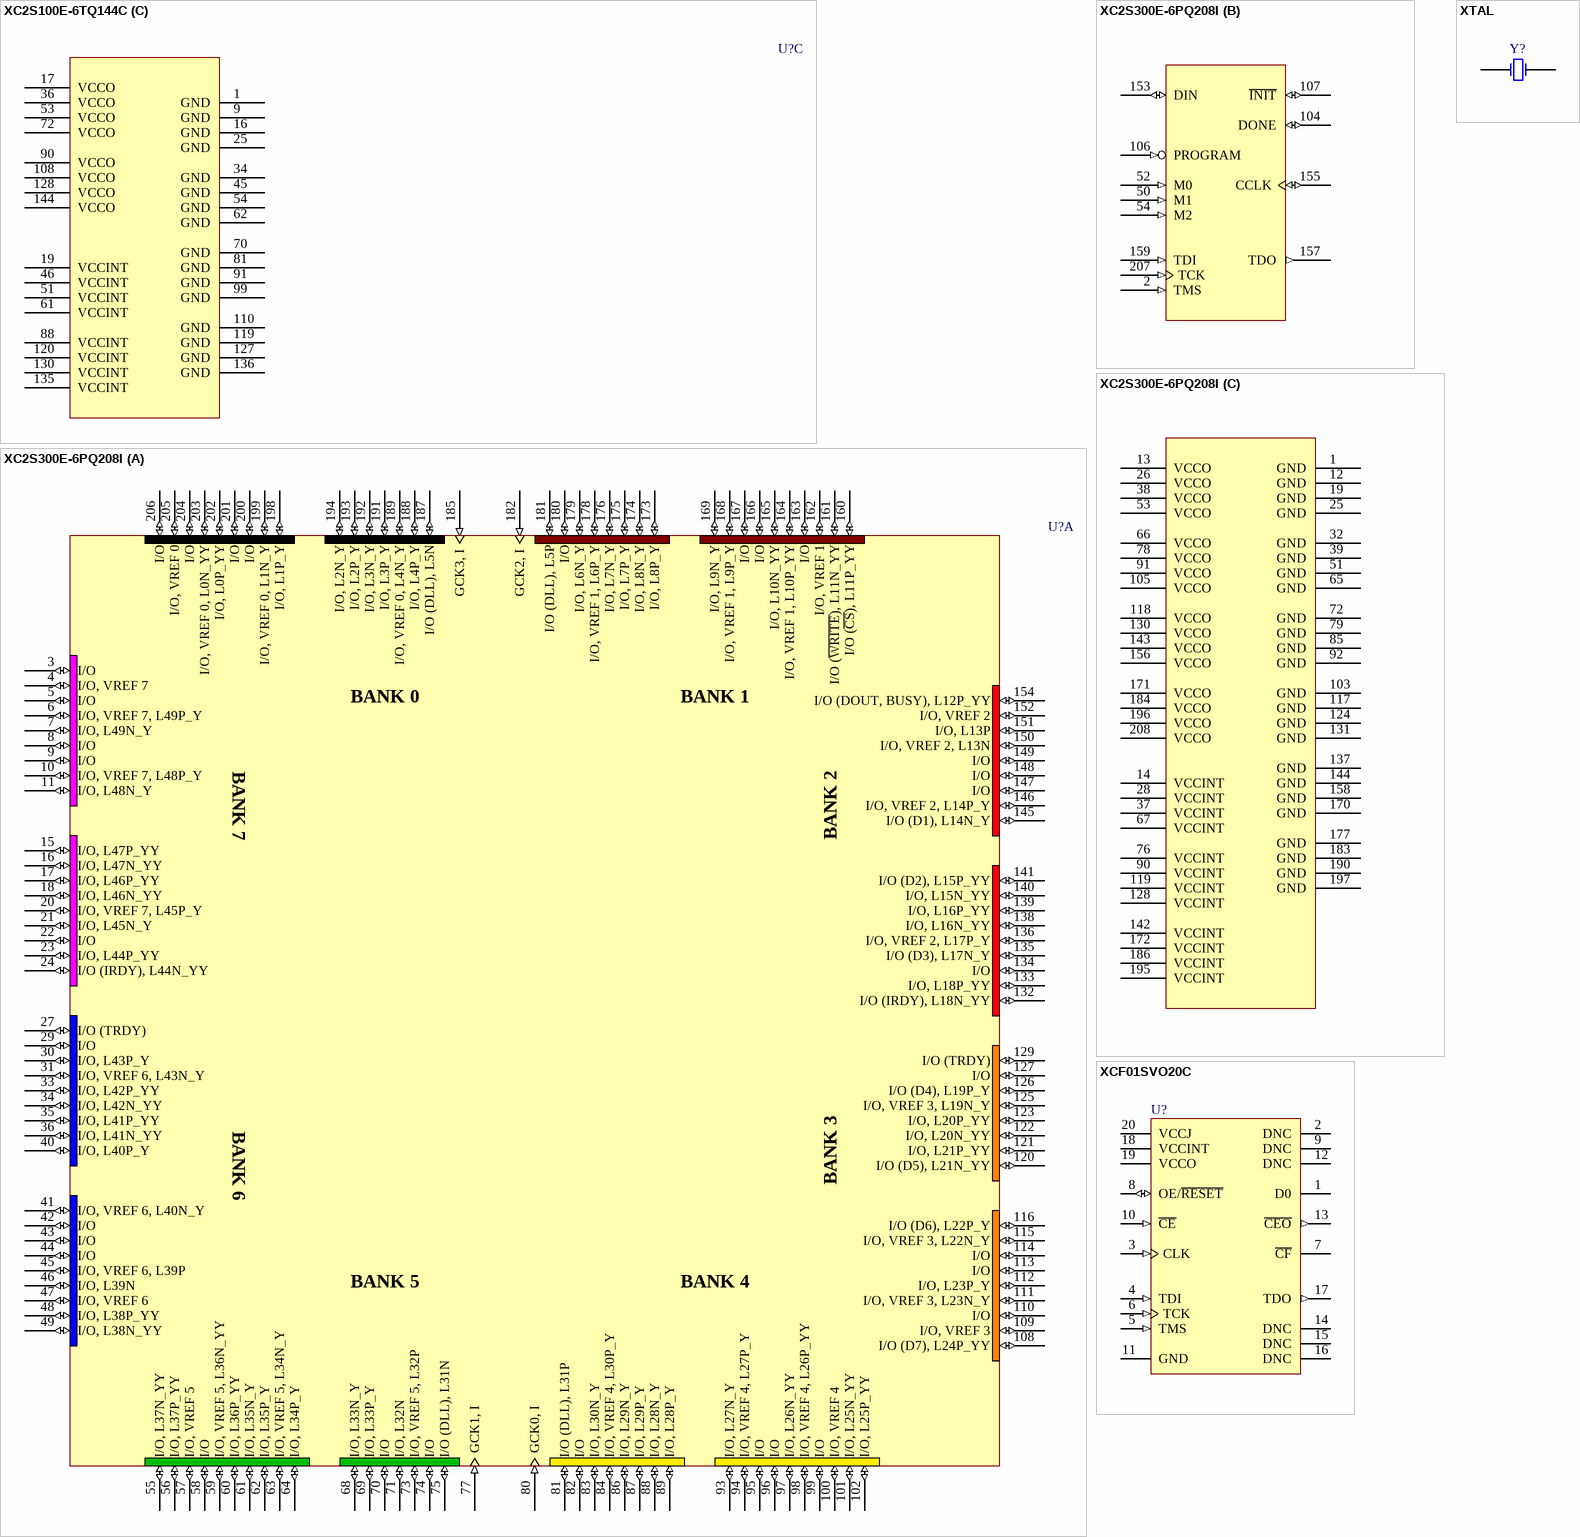
[diagram p30: symbols XC2S100E-6TQ144C to XTAL]

## XC2S100E-6TQ144C
designator U?
Spartan-IIE 1.8V FPGA, 144-Pin TQFP, Standard Performance, Commercial Grade; Vendor: Digikey; Published: 5-Jan-2004; DatasheetDocument: Ver2.1, July 9, 2003; PackageReference: TQ144; Publisher: Altium Limited; ComponentLink1Description: Digikey Part Link; ComponentLink2Description: Open Datasheet; ComponentLink2URL: H:\LIBRARY\LIBRARY.Datasheet\
footprint TQ144 (144-Pin Thin Quad Flat Pack (TQ144))
pcadlib TQ144 (144-Pin Thin Quad Flat Pack (TQ144))
part A pins: 3 I/O (io), 4 I/O (io), 5 I/O, VREF 7 (io), 6 I/O (io), 7 I/O, VREF 7, L27P (io), 8 I/O, L27N (io), 10 I/O, L26P_YY (io), 11 I/O, L26N_YY (io), 12 I/O, VREF 7, L25P (io), 13 I/O, L25N (io), 14 I/O (io), 15 I/O (IRDY) (io), 18 I/O (TRDY) (io), 20 I/O (io), 21 I/O, L24P (io), 22 I/O, VREF 6, L24N (io), 23 I/O, L23P_YY (io), 24 I/O, L23N_YY (io), 26 I/O, L22P (io), 27 I/O, VREF 6, L22N (io), 28 I/O (io), 29 I/O, VREF 6 (io), 30 I/O (io), 31 I/O, L21P_YY (io), 32 I/O, L21N_YY (io), 38 I/O, L20N_YY (io), 39 I/O, L20P_YY (io), 40 I/O (io), 41 I/O, VREF 5 (io), 42 I/O (io), 43 I/O, VREF 5, L19N_YY (io), 44 I/O, L19P_YY (io), 47 I/O, L18N_YY (io), 48 I/O, L18P_YY (io), 49 I/O, VREF 5 (io), 50 I/O (DLL), L17N (io), 52 GCK1, I (in), 55 GCK0, I (in), 56 I/O (DLL), L17P (io), 57 I/O (io), 58 I/O, VREF 4 (io), 59 I/O, L16N_YY (io), 60 I/O, L16P_YY (io), 63 I/O, L15N_YY (io), 64 I/O, VREF 4, L15P_YY (io), 65 I/O (io), 66 I/O, VREF 4 (io), 67 I/O (io), 68 I/O, L14N_YY (io), 69 I/O, L14P_YY (io), 75 I/O (D7), L13P_YY (io), 76 I/O (io), 77 I/O, VREF 3 (io), 78 I/O (io), 79 I/O, VREF 3, L12N (io), 80 I/O (D6), L12P (io), 82 I/O (D5), L11N_YY (io), 83 I/O, L11P_YY (io), 84 I/O (io), 85 I/O, VREF 3, L10N (io), 86 I/O (D4), L10P (io), 87 I/O (io), 89 I/O (TRDY) (io), 92 I/O (IRDY) (io), 93 I/O (io), 94 I/O (D3), L9N (io), 95 I/O, VREF 2, L9P (io), 96 I/O (io), 97 I/O, L8N_YY (io), 98 I/O (D2), L8P_YY (io), 100 I/O (D1), L7N (io), 101 I/O, VREF 2, L7P (io), 102 I/O (io), 103 I/O, VREF 2 (io), 104 I/O (io), 106 I/O (DOUT, BUSY), L6P_YY (io), 112 I/O (~{CS}), L5P_YY (io), 113 I/O (~{WRITE}), L5N_YY (io), 114 I/O (io), 115 I/O, VREF 1 (io), 116 I/O (io), 117 I/O, VREF 1, L4P_YY (io), 118 I/O, L4N_YY (io), 121 I/O, L3P_YY (io), 122 I/O, L3N_YY (io), 123 I/O, VREF 1 (io), 124 I/O (io), 125 I/O (DLL), L2P (io), 126 GCK2, I (in), 129 GCK3, I (in), 131 I/O (DLL), L2N (io), 132 I/O, VREF 0 (io), 133 I/O, L1P_YY (io), 134 I/O, L1N_YY (io), 137 I/O, L0P_YY (io), 138 I/O, VREF 0, L0N_YY (io), 139 I/O (io), 140 I/O, VREF 0 (io), 141 I/O (io), 142 I/O (io)
part B pins: 2 TMS (in), 33 M1 (in), 35 M0 (in), 37 M2 (in), 71 DONE (io), 73 PROGRAM (in), 74 ~{INIT} (io), 105 DIN (io), 107 CCLK (io), 109 TDO (out), 111 TDI (in), 143 TCK (in)
part C pins: 1 GND (power), 9 GND (power), 16 GND (power), 17 VCCO (power), 19 VCCINT (power), 25 GND (power), 34 GND (power), 36 VCCO (power), 45 GND (power), 46 VCCINT (power), 51 VCCINT (power), 53 VCCO (power), 54 GND (power), 61 VCCINT (power), 62 GND (power), 70 GND (power), 72 VCCO (power), 81 GND (power), 88 VCCINT (power), 90 VCCO (power), 91 GND (power), 99 GND (power), 108 VCCO (power), 110 GND (power), 119 GND (power), 120 VCCINT (power), 127 GND (power), 128 VCCO (power), 130 VCCINT (power), 135 VCCINT (power), 136 GND (power), 144 VCCO (power)
part A text: BANK 0; BANK 1; BANK 7; BANK 2; BANK 6; BANK 3; BANK 5; BANK 4

## XC2S300E-6PQ208I
designator U?
Spartan-IIE 1.8V FPGA, 208-Pin PQFP, Standard Performance, Industrial Grade; PackageDocument: ver1.1, Oct-2002; Vendor: Digikey; Published: 5-Jan-2004; DatasheetDocument: 09-Jul-2003; PackageReference: PQ208; Publisher: Altium Limited; Code_JEDEC: MS-029-FA-1; ComponentLink1Description: Digikey Part Link; ComponentLink2Description: Open Datasheet; ComponentLink2URL: H:\LIBRARY\LIBRARY.Datasheet\
footprint F-QFP28x28-G208/P.5N (208-Pin Plastic Quad Flat Pack (PQ208))
pcadlib F-QFP28x28-G208/P.5N (208-Pin Plastic Quad Flat Pack (PQ208))
3D model XC2S300E-PQ208 (208-Pin Plastic Quad Flat Pack (PQ208))
signal-integrity model XC2S300E_PQ208 (Spartan-IIE)
part A pins: 3 I/O (io), 4 I/O, VREF 7 (io), 5 I/O (io), 6 I/O, VREF 7, L49P_Y (io), 7 I/O, L49N_Y (io), 8 I/O (io), 9 I/O (io), 10 I/O, VREF 7, L48P_Y (io), 11 I/O, L48N_Y (io), 15 I/O, L47P_YY (io), 16 I/O, L47N_YY (io), 17 I/O, L46P_YY (io), 18 I/O, L46N_YY (io), 20 I/O, VREF 7, L45P_Y (io), 21 I/O, L45N_Y (io), 22 I/O (io), 23 I/O, L44P_YY (io), 24 I/O (IRDY), L44N_YY (io), 27 I/O (TRDY) (io), 29 I/O (io), 30 I/O, L43P_Y (io), 31 I/O, VREF 6, L43N_Y (io), 33 I/O, L42P_YY (io), 34 I/O, L42N_YY (io), 35 I/O, L41P_YY (io), 36 I/O, L41N_YY (io), 40 I/O, L40P_Y (io), 41 I/O, VREF 6, L40N_Y (io), 42 I/O (io), 43 I/O (io), 44 I/O (io), 45 I/O, VREF 6, L39P (io), 46 I/O, L39N (io), 47 I/O, VREF 6 (io), 48 I/O, L38P_YY (io), 49 I/O, L38N_YY (io), 55 I/O, L37N_YY (io), 56 I/O, L37P_YY (io), 57 I/O, VREF 5 (io), 58 I/O (io), 59 I/O, VREF 5, L36N_YY (io), 60 I/O, L36P_YY (io), 61 I/O, L35N_Y (io), 62 I/O, L35P_Y (io), 63 I/O, VREF 5, L34N_Y (io), 64 I/O, L34P_Y (io), 68 I/O, L33N_Y (io), 69 I/O, L33P_Y (io), 70 I/O (io), 71 I/O, L32N (io), 73 I/O, VREF 5, L32P (io), 74 I/O (io), 75 I/O (DLL), L31N (io), 77 GCK1, I (in), 80 GCK0, I (in), 81 I/O (DLL), L31P (io), 82 I/O (io), 83 I/O, L30N_Y (io), 84 I/O, VREF 4, L30P_Y (io), 86 I/O, L29N_Y (io), 87 I/O, L29P_Y (io), 88 I/O, L28N_Y (io), 89 I/O, L28P_Y (io), 93 I/O, L27N_Y (io), 94 I/O, VREF 4, L27P_Y (io), 95 I/O (io), 96 I/O (io), 97 I/O, L26N_YY (io), 98 I/O, VREF 4, L26P_YY (io), 99 I/O (io), 100 I/O, VREF 4 (io), 101 I/O, L25N_YY (io), 102 I/O, L25P_YY (io), 108 I/O (D7), L24P_YY (io), 109 I/O, VREF 3 (io), 110 I/O (io), 111 I/O, VREF 3, L23N_Y (io), 112 I/O, L23P_Y (io), 113 I/O (io), 114 I/O (io), 115 I/O, VREF 3, L22N_Y (io), 116 I/O (D6), L22P_Y (io), 120 I/O (D5), L21N_YY (io), 121 I/O, L21P_YY (io), 122 I/O, L20N_YY (io), 123 I/O, L20P_YY (io), 125 I/O, VREF 3, L19N_Y (io), 126 I/O (D4), L19P_Y (io), 127 I/O (io), 129 I/O (TRDY) (io), 132 I/O (IRDY), L18N_YY (io), 133 I/O, L18P_YY (io), 134 I/O (io), 135 I/O (D3), L17N_Y (io), 136 I/O, VREF 2, L17P_Y (io), 138 I/O, L16N_YY (io), 139 I/O, L16P_YY (io), 140 I/O, L15N_YY (io), 141 I/O (D2), L15P_YY (io), 145 I/O (D1), L14N_Y (io), 146 I/O, VREF 2, L14P_Y (io), 147 I/O (io), 148 I/O (io), 149 I/O (io), 150 I/O, VREF 2, L13N (io), 151 I/O, L13P (io), 152 I/O, VREF 2 (io), 154 I/O (DOUT, BUSY), L12P_YY (io), 160 I/O (~{CS}), L11P_YY (io), 161 I/O (~{WRITE}), L11N_YY (io), 162 I/O, VREF 1 (io), 163 I/O (io), 164 I/O, VREF 1, L10P_YY (io), 165 I/O, L10N_YY (io), 166 I/O (io), 167 I/O (io), 168 I/O, VREF 1, L9P_Y (io), 169 I/O, L9N_Y (io), 173 I/O, L8P_Y (io), 174 I/O, L8N_Y (io), 175 I/O, L7P_Y (io), 176 I/O, L7N_Y (io), 178 I/O, VREF 1, L6P_Y (io), 179 I/O, L6N_Y (io), 180 I/O (io), 181 I/O (DLL), L5P (io), 182 GCK2, I (in), 185 GCK3, I (in), 187 I/O (DLL), L5N (io), 188 I/O, L4P_Y (io), 189 I/O, VREF 0, L4N_Y (io), 191 I/O, L3P_Y (io), 192 I/O, L3N_Y (io), 193 I/O, L2P_Y (io), 194 I/O, L2N_Y (io), 198 I/O, L1P_Y (io), 199 I/O, VREF 0, L1N_Y (io), 200 I/O (io), 201 I/O (io), 202 I/O, L0P_YY (io), 203 I/O, VREF 0, L0N_YY (io), 204 I/O (io), 205 I/O, VREF 0 (io), 206 I/O (io)
part B pins: 2 TMS (in), 50 M1 (in), 52 M0 (in), 54 M2 (in), 104 DONE (io), 106 PROGRAM (in), 107 ~{INIT} (io) "I/O (I\N\I\T\), L24N_YY", 153 DIN (io) "I/O (DIN, D0), L12N_YY", 155 CCLK (io), 157 TDO (out), 159 TDI (in), 207 TCK (in)
part C pins: 1 GND (power), 12 GND (power), 13 VCCO (power), 14 VCCINT (power), 19 GND (power), 25 GND (power), 26 VCCO (power), 28 VCCINT (power), 32 GND (power), 37 VCCINT (power), 38 VCCO (power), 39 GND (power), 51 GND (power), 53 VCCO (power), 65 GND (power), 66 VCCO (power), 67 VCCINT (power), 72 GND (power), 76 VCCINT (power), 78 VCCO (power), 79 GND (power), 85 GND (power), 90 VCCINT (power), 91 VCCO (power), 92 GND (power), 103 GND (power), 105 VCCO (power), 117 GND (power), 118 VCCO (power), 119 VCCINT (power), 124 GND (power), 128 VCCINT (power), 130 VCCO (power), 131 GND (power), 137 GND (power), 142 VCCINT (power), 143 VCCO (power), 144 GND (power), 156 VCCO (power), 158 GND (power), 170 GND (power), 171 VCCO (power), 172 VCCINT (power), 177 GND (power), 183 GND (power), 184 VCCO (power), 186 VCCINT (power), 190 GND (power), 195 VCCINT (power), 196 VCCO (power), 197 GND (power), 208 VCCO (power)
part A text: BANK 0; BANK 1; BANK 7; BANK 2; BANK 6; BANK 3; BANK 5; BANK 4

## XCF01SVO20C
designator U?
XCF00S Series, Platform Flash In-System Programmable Configuration 3.3V PROM, 1-Megabit, Commercial Grade; Vendor: Digikey; Published: 5-Jan-2004; DatasheetDocument: Ver2.1, Nov-2003; Publisher: Altium Limited; ComponentLink1Description: Digikey Part Link; ComponentLink2Description: Open Datasheet; ComponentLink2URL: H:\LIBRARY\LIBRARY.Datasheet\
footprint VO20 (20-Pin Thin Small-Outline Package (VO20))
pcadlib VO20 (20-Pin Thin Small-Outline Package (VO20))
pins: 1 D0 (hiz) "Serial Data Output, for configuring an FPGA in serial mode.", 2 DNC "Leave Unconnected.", 3 CLK (in) "Configuration Clock Input.", 4 TDI (in) "JTAG Serial Data Input.", 5 TMS (in) "JTAG Mode Select Input.", 6 TCK (in) "JTAG Test Clock Input.", 7 ~{CF} (oc) "Configuration Pulse (Open-Drain Output).", 8 OE/~{RESET} (io) "Output Enable/Reset (Open-Drain I/O).", 9 DNC "Leave Unconnected.", 10 ~{CE} (in) "Chip Enable Input.", 11 GND (power) "Ground", 12 DNC "Leave Unconnected.", 13 ~{CEO} (out) "Chip Enable Output, connects to the CE input of the next PROM in the chain.", 14 DNC "Leave Unconnected.", 15 DNC "Leave Unconnected.", 16 DNC "Leave Unconnected.", 17 TDO (out) "JTAG Serial Data Output.", 18 VCCINT (power) "+3.3V Supply for internal logic.", 19 VCCO (power) "+3.3V, 2.5V, or 1.8V I/O Supply.", 20 VCCJ (power) "+3.3V or 2.5V JTAG Signals I/O Supply."

## XTAL
designator Y?
Crystal Oscillator; Published: 8-Jun-2000; LatestRevisionDate: 17-Jul-2002; LatestRevisionNote: Re-released for DXP Platform.; PackageReference: R38; Publisher: Altium Limited
footprint XTAL (Crystal, Thru-Hole; 2 Leads; Body 3.1 x 8.2 mm (Dia.xH))
pins: 1 OSC1, 2 OSC2

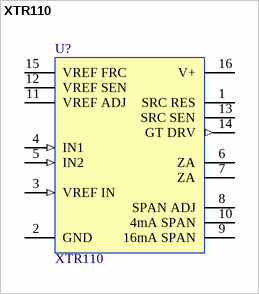
[diagram p31: symbol XTR110]

## XTR110
designator U?
Precision Voltage-to-Current Converter/Transmitter; Published: 8-Jun-2000; LatestRevisionDate: 06-Jun-2005; LatestRevisionNote: Stylized 3D Model Added.; DatasheetVersion: Sep-1993; PackageVersion: revF; PackageReference: ZZ180; Publisher: Altium Limited; PackageDescription: DIP, Plastic; 16 Leads; Row Spacing 7.62 mm; Pitch 2.54 mm; Code_JEDEC: MS-001-BB; ComponentLink1Description: Manufacturer Link; ComponentLink1URL: http://www.ti.com/; ComponentLink2Description: Datasheet; ComponentLink2URL: http://www-s.ti.com/sc/ds/XTR110.pdf
footprint DIP16 (DIP; 16 Leads; Row Spacing 7.62 mm; Pitch 2.54 mm)
footprint SOIC16-W (SOIC, 16-Leads, Body 10.3x7.5mm, Pitch 1.27mm, IPC Medium Density)
pins: 1 SRC RES, 2 GND (power), 3 VREF IN (in), 4 IN1 (in), 5 IN2 (in), 6 ZA, 7 ZA, 8 SPAN ADJ, 9 16mA SPAN, 10 4mA SPAN, 11 VREF ADJ, 12 VREF SEN, 13 SRC SEN, 14 GT DRV (out), 15 VREF FRC, 16 V+ (power)